# EAGLE library part TLC59116-Q1 (library forkbomb19)
TLC59116-Q1 LED Treiber mit I2C, 16 Channel, Texas Instruments
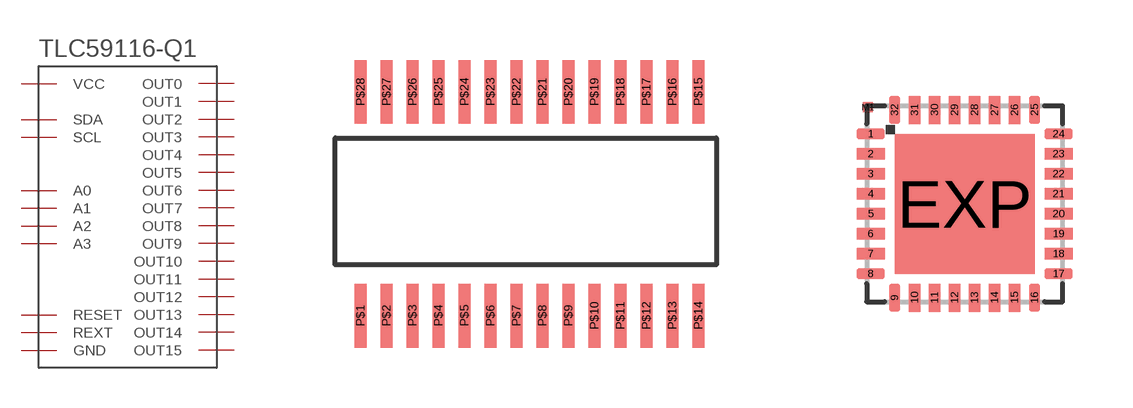
[diagram p3: symbol with the pads of TSSOP28; footprints TSSOP28, HVQFN32]

Designator prefix -

## TLC59116-Q1  [TSSOP28]
P$1  REXT
P$2  A0
P$3  A1
P$4  A2
P$5  A3
P$6  OUT0
P$7  OUT1
P$8  OUT2
P$9  OUT3
P$10  GND
P$11  OUT4
P$12  OUT5
P$13  OUT6
P$14  OUT7
P$15  OUT8
P$16  OUT9
P$17  OUT10
P$18  OUT11
P$19  GND
P$20  OUT12
P$21  OUT13
P$22  OUT14
P$23  OUT15
P$24  GND
P$25  RESET
P$26  SCL
P$27  SDA
P$28  VCC

## TLC59116-Q1VQFN  [HVQFN32]
1  A2
2  A3
3  OUT0
4  OUT1
5  OUT2
6  OUT3
7  GND
8  OUT4
9  OUT5
10  OUT6
11  OUT7
14  OUT8
15  OUT9
16  OUT10
17  OUT11
18  GND
19  OUT12
20  OUT13
21  OUT14
22  OUT15
23  GND
24  RESET
25  SCL
26  SDA
27  VCC
30  REXT
31  A0
32  A1
EXP  GND

## Footprint TSSOP28 (pad centres in mm)
smd 0.3 x 1.6: P$1 0,0; P$2 0.65,0; P$3 1.3,0; P$4 1.95,0; P$5 2.6,0; P$6 3.25,0; P$7 3.9,0; P$8 4.55,0; P$9 5.2,0; P$10 5.85,0; P$11 6.5,0; P$12 7.15,0; P$13 7.8,0; P$14 8.45,0; P$15 8.45,5.6; P$16 7.8,5.6; P$17 7.15,5.6; P$18 6.5,5.6; P$19 5.85,5.6; P$20 5.2,5.6; P$21 4.55,5.6; P$22 3.9,5.6; P$23 3.25,5.6; P$24 2.6,5.6; P$25 1.95,5.6; P$26 1.3,5.6; P$27 0.65,5.6; P$28 0,5.6

## Footprint HVQFN32 (pad centres in mm)
HVQFN32 (SOT617-3) 5 x 5 x .85 mm, Pitch 0.5mm Source: http://www.semiconductors.philips.com/acrobat_download/datasheets/TDA9885_TDA9886_2.pdf
smd 0.7 x 0.28: 1 -2.35,1.75; 2 -2.35,1.25; 3 -2.35,0.75; 4 -2.35,0.25; 5 -2.35,-0.25; 6 -2.35,-0.75; 7 -2.35,-1.25; 8 -2.35,-1.75; 17 2.35,-1.75; 18 2.35,-1.25; 19 2.35,-0.75; 20 2.35,-0.25; 21 2.35,0.25; 22 2.35,0.75; 23 2.35,1.25; 24 2.35,1.75
smd 0.28 x 0.7: 9 -1.75,-2.35; 10 -1.25,-2.35; 11 -0.75,-2.35; 12 -0.25,-2.35; 13 0.25,-2.35; 14 0.75,-2.35; 15 1.25,-2.35; 16 1.75,-2.35; 25 1.75,2.35; 26 1.25,2.35; 27 0.75,2.35; 28 0.25,2.35; 29 -0.25,2.35; 30 -0.75,2.35; 31 -1.25,2.35; 32 -1.75,2.35
smd 3.5 x 3.5: EXP 0,0
smd 0.25 x 0.25: M1 -2.415,2.415